# Altium integrated library MX25L3233FM2I-08G.IntLib: 1 symbol
Pins are listed as number, name and electrical type; pins without a type are passive.

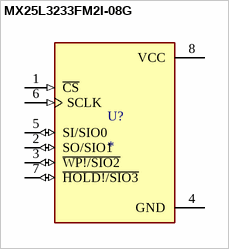
[diagram p0: symbol MX25L3233FM2I-08G]

## MX25L3233FM2I-08G
designator U?
FLASH - NOR Memory IC 32Mb _8M x 4_ SPI - Quad I/O 133MHz 8-SOP; MF: Macronix; MP: MX25L3233FM2I-08G; SnapEDA_Link: https://www.snapeda.com/parts/MX25L3233FM2I-08G/Macronix/view-part/2101968/?ref=snap; Price: None; Package: SOIC-8 Macronix; Value: *; Availability: Unavailable
footprint SOIC127P790X216-8N_MX25L3233FM2I-08G
pins: 1 ~{CS} (in), 2 SO/SIO1 (io), 3 ~{WP!/SIO2} (io), 4 GND (power), 5 SI/SIO0 (io), 6 SCLK (in), 7 ~{HOLD!/SIO3} (io), 8 VCC (power)